# Altium footprint library BuckLib.PcbLib: 1 footprints
Each footprint in its own frame and in the unit in brackets; x right, y up, seen from the top. Pads: shape width x height; smd on the part's side, far side on the other; paste and mask are expansions set on the pad; w line width, h text height; cw(c..) or ccw(c..) is an arc to the next point about the centre after c.
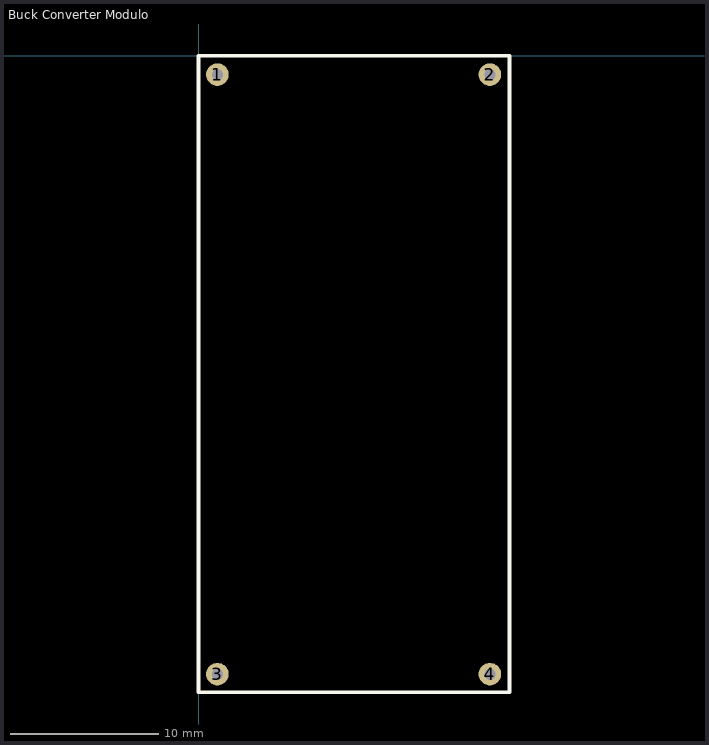
[diagram p0: the footprint, top view; thin cyan lines are the x and y axes]

## Buck Converter Modulo [mil] "modulo entero de conversor Buck"
pads (4):
  round 60 hole 30: 1(50,-50) 2(775,-50) 3(50,-1645) 4(775,-1645)
Top Overlay:
  lines w10: 0,-1692.91 826.77,-1692.91 826.77,0 0,0 0,-1692.91